# EAGLE library part MTD6501C (library daGloane)
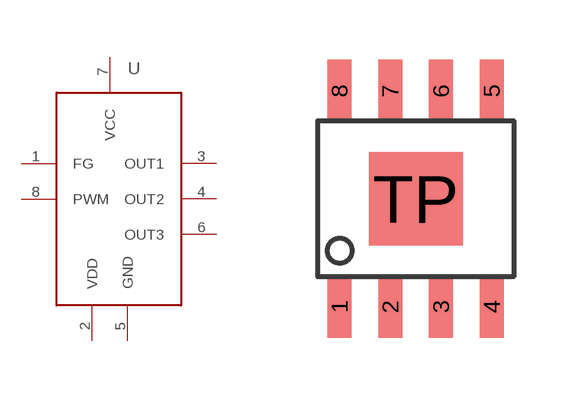
[diagram p8: symbol with the pads of SOP-8; footprint SOP-8]

Designator prefix -

## MTD6501C  [SOP-8]
1  FG  out
2  VDD
3  OUT1  out
4  OUT2  out
5  GND  pwr
6  OUT3  out
7  VCC  pwr
8  PWM  in

## Footprint SOP-8 (pad centres in mm)
smd 0.6 x 1.55: 1 -1.905,-2.7; 2 -0.635,-2.7; 3 0.635,-2.7; 4 1.905,-2.7; 5 1.905,2.7; 6 0.635,2.7; 7 -0.635,2.7; 8 -1.905,2.7
smd 2.35 x 2.35: TP 0,0